# EAGLE library part 5103310-5 (library Tyco_By_element14_Batch_1)
HEADER, R/A 20WAY
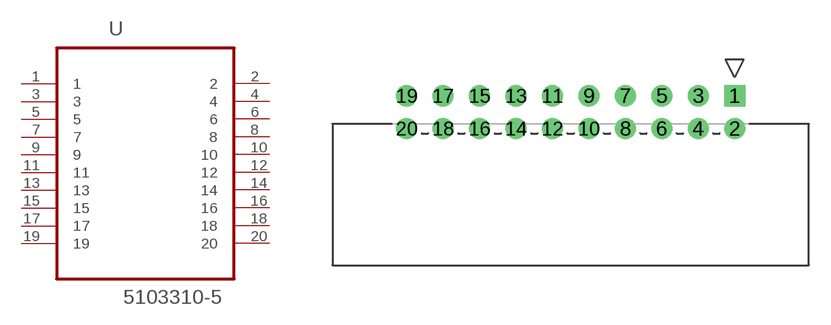
[diagram p108: symbol with the pads of TYCO_5103310-5; footprint TYCO_5103310-5]

Designator prefix U

## 5103310-5 (MPN: 5103310-5; OC_FARNELL: 1554031; OC_NEWARK: 02M6204; PACKAGE: 20-Rightangle Male Header; SUPPLIER: Tyco Electronics)  [TYCO_5103310-5]
1  1  pas
2  2  pas
3  3  pas
4  4  pas
5  5  pas
6  6  pas
7  7  pas
8  8  pas
9  9  pas
10  10  pas
11  11  pas
12  12  pas
13  13  pas
14  14  pas
15  15  pas
16  16  pas
17  17  pas
18  18  pas
19  19  pas
20  20  pas

## Footprint TYCO_5103310-5 (pad centres in mm)
drill 0.965 square: 1 0,4.826
drill 0.965: 2 0,2.54; 3 -2.54,4.826; 4 -2.54,2.54; 5 -5.08,4.826; 6 -5.08,2.54; 7 -7.62,4.826; 8 -7.62,2.54; 9 -10.16,4.826; 10 -10.16,2.54; 11 -12.7,4.826; 12 -12.7,2.54; 13 -15.24,4.826; 14 -15.24,2.54; 15 -17.78,4.826; 16 -17.78,2.54; 17 -20.32,4.826; 18 -20.32,2.54; 19 -22.86,4.826; 20 -22.86,2.54